# EAGLE library part CREE_RGB_LED (library icnh3)
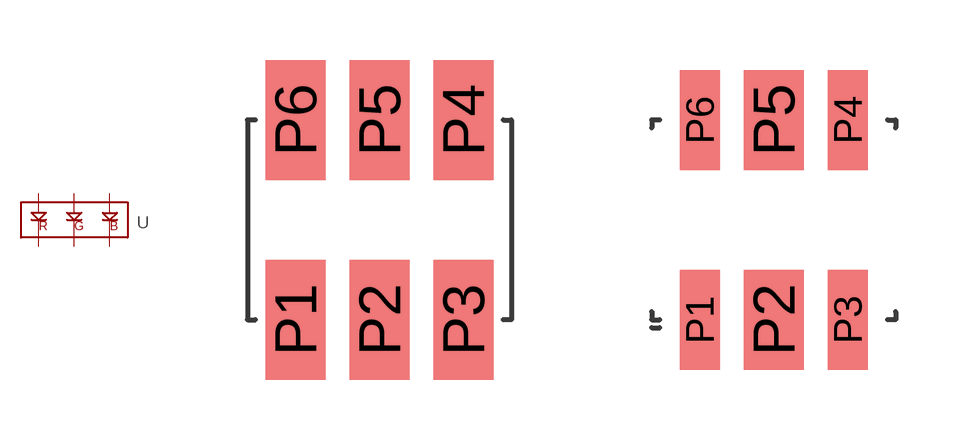
[diagram p2: symbol with the pads of PLCC6; footprints PLCC6, PLCC6_TS]

Designator prefix -

## CREE_RGB_LED  [PLCC6]
P1  R+  pas
P2  G+  pas
P3  B+  pas
P4  B-  pas
P5  G-  pas
P6  R-  pas

## CREE_RGB_LEDTHIN  [PLCC6_TS]
Pads as for PLCC6

## Footprint PLCC6 (pad centres in mm)
smd 1.5 x 3: P1 0,-5; P2 2.1,-5; P3 4.2,-5; P4 4.2,0; P5 2.1,0; P6 0,0

## Footprint PLCC6_TS (pad centres in mm)
smd 1 x 2.5: P1 -2.29,-2.46; P3 1.41,-2.46; P4 1.41,2.54; P6 -2.29,2.54
smd 1.5 x 2.5: P2 -0.44,-2.46; P5 -0.44,2.54